# EAGLE library part RASCAL_SHIELD_DBG (library Rascal)
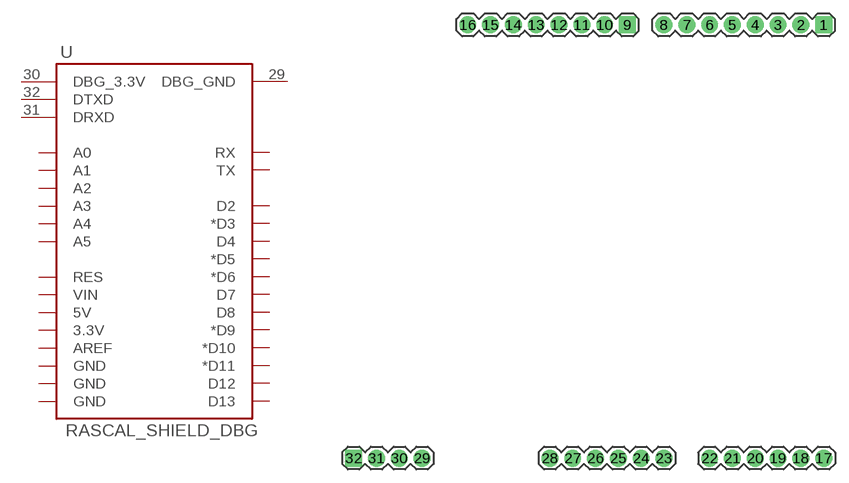
[diagram p0: symbol with the pads of RASCAL_SHIELD_DBG; footprint RASCAL_SHIELD_DBG]

Designator prefix -

## RASCAL_SHIELD_DBG  [RASCAL_SHIELD_DBG]
1  RX
2  TX
3  D2
4  *D3
5  D4
6  *D5
7  *D6
8  D7
9  D8
10  *D9
11  *D10
12  *D11
13  D12
14  D13
15  GND
16  AREF
17  A5
18  A4
19  A3
20  A2
21  A1
22  A0
23  VIN
24  GND
25  GND
26  5V
27  3.3V
28  RES
29  DBG_GND
30  DBG_3.3V
31  DRXD
32  DTXD

## Footprint RASCAL_SHIELD_DBG (pad centres in mm)
drill 1.016 pad 1.88 square: 1 -5.08,50.8; 9 -26.924,50.8; 32 -57.404,2.54
drill 1.016 pad 1.88 round: 2 -7.62,50.8; 3 -10.16,50.8; 4 -12.7,50.8; 5 -15.24,50.8; 6 -17.78,50.8; 7 -20.32,50.8; 8 -22.86,50.8; 10 -29.464,50.8; 11 -32.004,50.8; 12 -34.544,50.8; 13 -37.084,50.8; 14 -39.624,50.8; 15 -42.164,50.8; 16 -44.704,50.8; 17 -5.08,2.54; 18 -7.62,2.54; 19 -10.16,2.54; 20 -12.7,2.54; 21 -15.24,2.54; 22 -17.78,2.54; 23 -22.86,2.54; 24 -25.4,2.54; 25 -27.94,2.54; 26 -30.48,2.54; 27 -33.02,2.54; 28 -35.56,2.54; 29 -49.784,2.54; 30 -52.324,2.54; 31 -54.864,2.54